# Altium integrated library QTE-020-03-X-D-A-K-XX.IntLib: 1 symbol
Pins are listed as number, name and electrical type; pins without a type are passive.

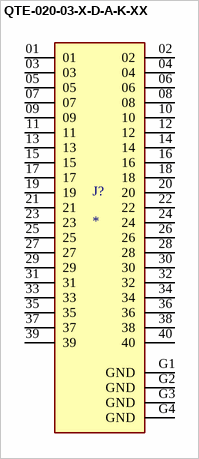
[diagram p0: symbol QTE-020-03-X-D-A-K-XX]

## QTE-020-03-X-D-A-K-XX
designator J?
40 Position Connector Header, Outer Shroud Contacts Surface Mount Gold; MP: QTE-020-03-F-D-A-K-TR; MF: Samtec; SnapEDA_Link: https://www.snapeda.com/parts/QTE-020-03-F-D-A-K-TR/Samtec/view-part/3359767/?ref=snap; Package: None; Purchase-URL: https://pricing.snapeda.com/search/part/QTE-020-03-F-D-A-K-TR/?ref=eda; Check_prices: https://www.snapeda.com/parts/QTE-020-03-F-D-A-K-TR/Samtec/view-part/3359767/?ref=eda; Price: None; Value: *; Availability: In Stock
footprint SAMTEC_QTE-020-03-X-D-A-K-XX
pins: 01, 02, 03, 04, 05, 06, 07, 08, 09, 10, 11, 12, 13, 14, 15, 16, 17, 18, 19, 20, 21, 22, 23, 24, 25, 26, 27, 28, 29, 30, 31, 32, 33, 34, 35, 36, 37, 38, 39, 40, G1 GND (power), G2 GND (power), G3 GND (power), G4 GND (power)